# EAGLE library part WE-BAL (library Wurth_Elektronik_Passive_rev15b)
WE-BAL Multilayer Chip Balun Characteristics Low loss SMD Balun with balanced impedance of 50 to 200 Ω Operating temperature: –40 °C to +85 °C Power Capacity: 2 W max. Applications RF applications Wireless communication systems like Home RF, DECT, WLAN, Bluetooth, ZigBee … <http://katalog.we-online.de/media/images/eisos/RfBAL_pf2.jpg> Details see: http://katalog.we-online.de/en/pbs/WE-BAL Updated by Dan Xu 2014-06-19 2014 (C) Wurth Elektronik
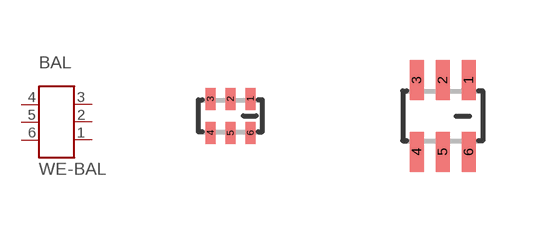
[diagram p0: symbol with the pads of WE-BAL_0603; footprints WE-BAL_0603, WE-BAL_0805]

Designator prefix BAL

## WE-BAL_0603  [WE-BAL_0603]
1  1  pas
2  2  pas
3  3  pas
4  4  pas
5  5  pas
6  6  pas

## WE-BAL_0805  [WE-BAL_0805]
Pads as for WE-BAL_0603

## WE-BAL_1206  [WE-BAL_1206]
Pads as for WE-BAL_0603

## Footprint WE-BAL_0603 (pad centres in mm)
Multilayer Chip Baluns WE-BAL
smd 0.25 x 0.55: 1 0.5,0.425; 2 0,0.425; 3 -0.5,0.425; 4 -0.5,-0.425; 5 0,-0.425; 6 0.5,-0.425

## Footprint WE-BAL_0805 (pad centres in mm)
Multilayer Chip Baluns WE-BAL
smd 0.35 x 1: 1 0.65,0.9; 2 0,0.9; 3 -0.65,0.9; 4 -0.65,-0.9; 5 0,-0.9; 6 0.65,-0.9

## Footprint WE-BAL_1206 (pad centres in mm)
Multilayer Chip Baluns WE-BAL
smd 0.65 x 1.1: 1 1,1; 2 0,1; 3 -1,1; 4 -1,-1; 5 0,-1; 6 1,-1